# Altium footprint library GS-101_v3.3.PcbLib: 40 footprints (part 2 of 3)
Each footprint in its own frame and in the unit in brackets; x right, y up, seen from the top. Pads: shape width x height; smd on the part's side, far side on the other; paste and mask are expansions set on the pad; w line width, h text height; cw(c..) or ccw(c..) is an arc to the next point about the centre after c.
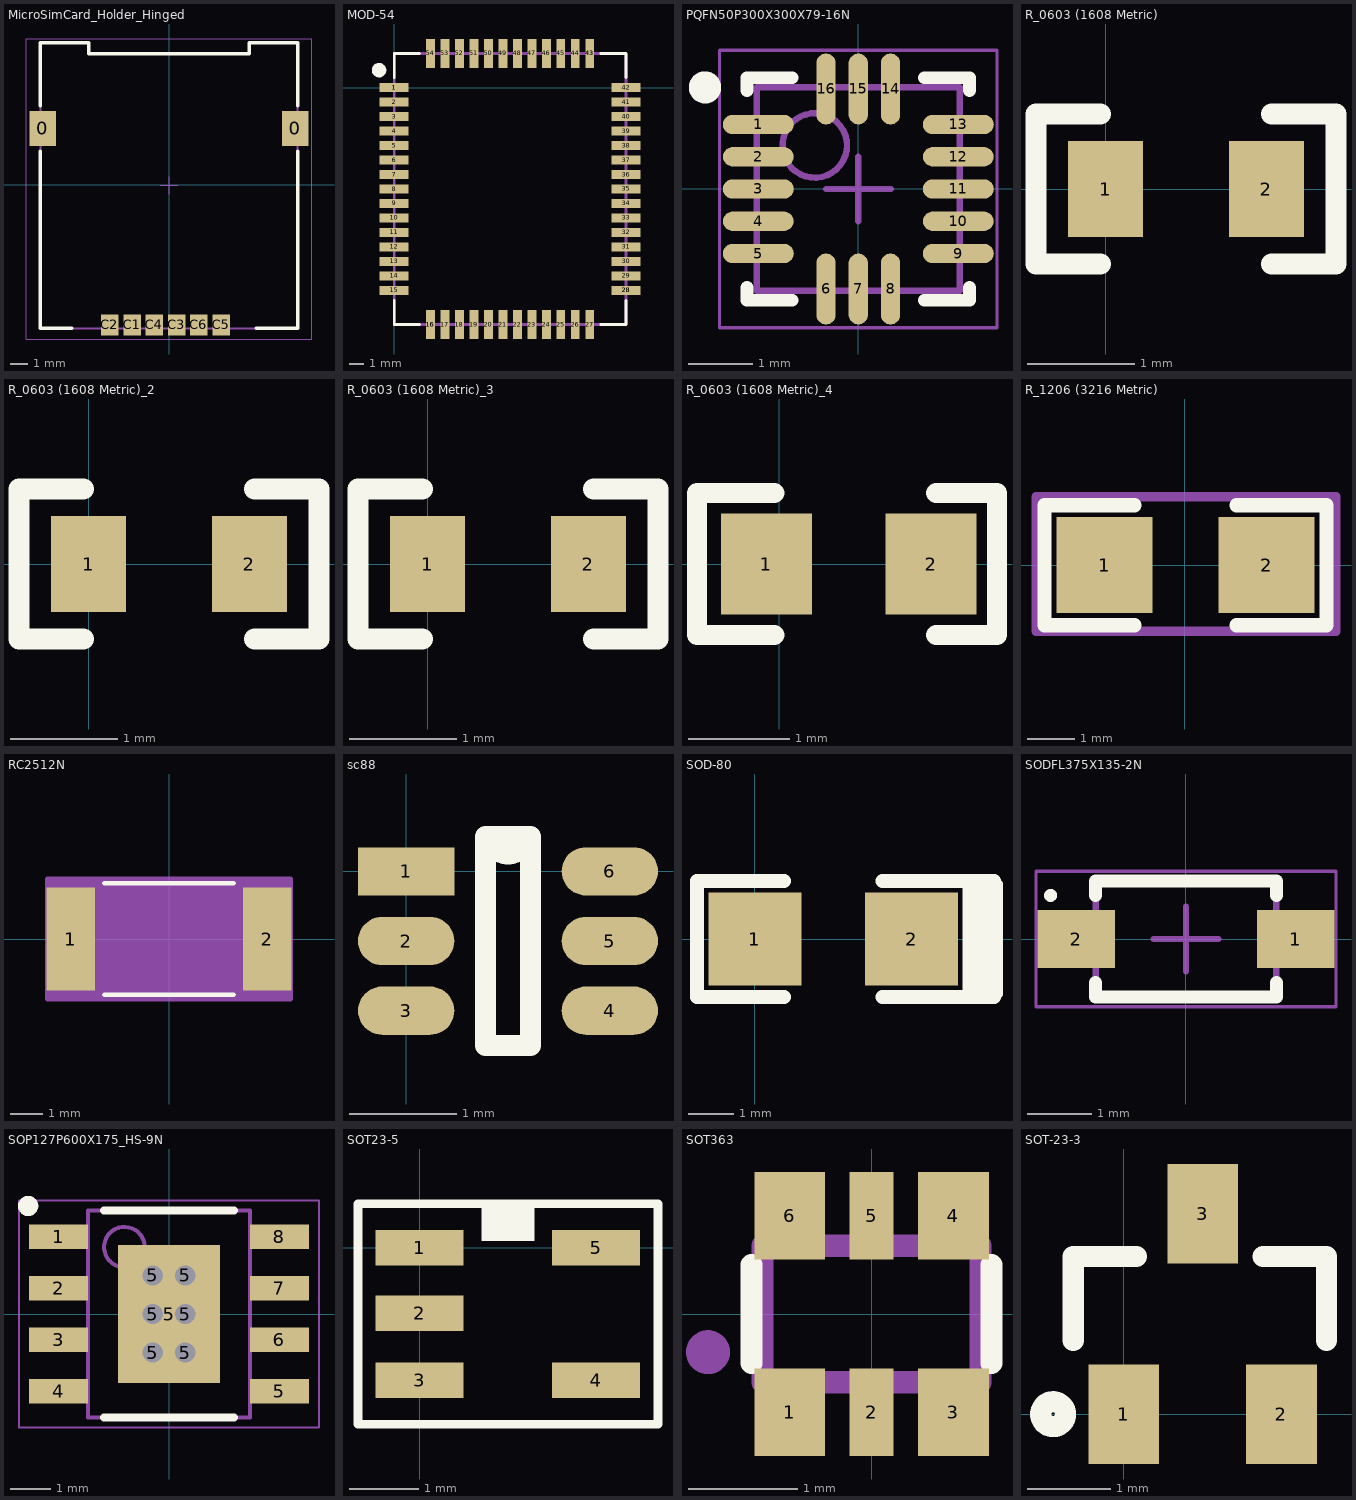
[diagram p1: the footprints below, top view; thin cyan lines are the x and y axes]

## MicroSimCard_Holder_Hinged [mm]
height 6.4
pads (8):
  rect 1.5x2 smd: 0(-7.2,3.199) 0(7.2,3.199)
  rect 1x1.2 smd: C1(-2.104,-8.001) C2(-3.374,-8.001) C3(0.436,-8.001) C4(-0.834,-8.001) C5(2.976,-8.001) C6(1.706,-8.001)
Top Overlay:
  lines w0.2: -7.33,1.899 -7.33,-8.201 -5.53,-8.201 ; -7.33,4.499 -7.33,8.099 -4.58,8.099 -4.58,7.449 4.58,7.449 4.58,8.099 7.33,8.099 7.33,4.499 ; 4.97,-8.201 7.33,-8.201 7.33,1.899
Mechanical 13:
  lines w0.1: -7.33,-8.201 7.33,-8.201 7.33,8.099 4.58,8.099 4.58,7.449 -4.58,7.449 -4.58,8.099 -7.33,8.099 -7.33,-8.201
Mechanical 15:
  lines w0.05: -0.5,-0.051 0.5,-0.051 ; 0,-0.551 0,0.449 ; -8.15,-8.801 -8.15,8.299 8.15,8.299 8.15,-8.801 -8.15,-8.801
3D body "693022010811.stp": height 2.09, standoff -0.04, extent -7.7,-8.211 7.7,8.089

## MOD-54 [mm] "SKC111"
pads (58):
  rect 2x0.6 smd: 1(0,0) 1(0,0) 2(0,-1) 3(0,-2) 4(0,-3) 5(0,-4) 6(0,-5) 7(0,-6) 8(0,-7) 9(0,-8) 10(0,-9) 11(0,-10) 12(0,-11) 13(0,-12) 14(0,-13) 15(0,-14) 28(16,-14) 28(16,-14) 29(16,-13) 30(16,-12) 31(16,-11) 32(16,-10) 33(16,-9) 34(16,-8) 35(16,-7) 36(16,-6) 37(16,-5) 38(16,-4) 39(16,-3) 40(16,-2) 41(16,-1) 42(16,0)
  rect 0.6x2 smd: 16(2.5,-16.35) 16(2.5,-16.35) 17(3.5,-16.35) 18(4.5,-16.35) 19(5.5,-16.35) 20(6.5,-16.35) 21(7.5,-16.35) 22(8.5,-16.35) 23(9.5,-16.35) 24(10.5,-16.35) 25(11.5,-16.35) 26(12.5,-16.35) 27(13.5,-16.35) 43(13.5,2.35) 43(13.5,2.35) 44(12.5,2.35) 45(11.5,2.35) 46(10.5,2.35) 47(9.5,2.35) 48(8.5,2.35) 49(7.5,2.35) 50(6.5,2.35) 51(5.5,2.35) 52(4.5,2.35) 53(3.5,2.35) 54(2.5,2.35)
Top Overlay:
  circle w0.5: c-1.05,1.2 r0.25
  lines w0.2: 0,-14.7 0,-16.35 1.75,-16.35 ; 0,0.7 0,2.35 1.75,2.35 ; 14.25,-16.35 16,-16.35 16,-14.7 ; 14.25,2.35 16,2.35 16,0.7
Mechanical 1:
  lines w0.2: 0,-16.35 0,2.35 16,2.35 16,-16.35 0,-16.35
3D body "User Library-Quectel MC60.step": height 2.1, standoff 0, extent -0.001,-16.352 16.001,2.35

## PQFN50P300X300X79-16N [mm] "PQFN, 16-Leads, Body 3.00x3.00mm, Pitch 0.50mm, IPC Medium Density"
height 0.79
pads (16):
  oval 1.1x0.3 smd mask+0.038: 1(-1.55,1) 2(-1.55,0.5) 3(-1.55,0) 4(-1.55,-0.5) 5(-1.55,-1) 9(1.55,-1) 10(1.55,-0.5) 11(1.55,0) 12(1.55,0.5) 13(1.55,1)
  oval 0.3x1.1 smd mask+0.038: 6(-0.5,-1.55) 7(0,-1.55) 8(0.5,-1.55) 14(0.5,1.55) 15(0,1.55) 16(-0.5,1.55)
Top Overlay:
  circle w0.25: c-2.375,1.575 r0.125
  lines w0.2: -1.725,-1.525 -1.725,-1.725 -1.025,-1.725 ; -1.725,1.525 -1.725,1.725 -1.025,1.725 ; 1.025,-1.725 1.725,-1.725 1.725,-1.525 ; 1.025,1.725 1.725,1.725 1.725,1.525
Mechanical 13:
  circle w0.1: c-0.675,0.675 r0.5
  lines w0.1: -1.575,-1.575 -1.575,1.575 1.575,1.575 1.575,-1.575 -1.575,-1.575
Mechanical 15:
  lines w0.05: -2.15,-2.15 -2.15,2.15 2.15,2.15 2.15,-2.15 -2.15,-2.15
  lines w0.1: -0.5,0 0.5,0 ; 0,-0.5 0,0.5
3D body "PQFN50P300X300X79-16N.step": height 0.78, standoff 0, extent -1.575,-1.575 1.575,1.575

## R_0603 (1608 Metric) [mm]
pads (2):
  rect 0.7x0.9 smd: 1(0,0) 2(1.5,0)
Top Overlay:
  lines w0.2: -0.05,-0.7 -0.65,-0.7 -0.65,0.7 -0.05,0.7 ; 1.55,-0.7 2.15,-0.7 2.15,0.7 1.55,0.7
3D body "User Library-RES_1609-0603.step": height 0.56, standoff 0, extent -0.1,-0.4 1.6,0.4

## R_0603 (1608 Metric)_2 [mm]
pads (2):
  rect 0.7x0.9 smd: 1(0,0) 2(1.5,0)
Top Overlay:
  lines w0.2: -0.05,-0.7 -0.65,-0.7 -0.65,0.7 -0.05,0.7 ; 1.55,-0.7 2.15,-0.7 2.15,0.7 1.55,0.7
3D body "User Library-RES_1609-0603.step": height 0.56, standoff 0, extent -0.1,-0.4 1.6,0.4

## R_0603 (1608 Metric)_3 [mm]
pads (2):
  rect 0.7x0.9 smd: 1(0,0) 2(1.5,0)
Top Overlay:
  lines w0.2: -0.05,-0.7 -0.65,-0.7 -0.65,0.7 -0.05,0.7 ; 1.55,-0.7 2.15,-0.7 2.15,0.7 1.55,0.7
3D body "User Library-RES_1609-0603.step": height 0.56, standoff 0, extent -0.1,-0.4 1.6,0.4

## R_0603 (1608 Metric)_4 [mm]
pads (2):
  rect 0.9x1 smd: 1(-0.127,0) 2(1.5,0)
Top Overlay:
  lines w0.2: -0.05,-0.7 -0.813,-0.7 -0.813,0.7 -0.05,0.7 ; 1.55,-0.7 2.15,-0.7 2.15,0.7 1.55,0.7
3D body "User Library-RES_1609-0603.step": height 0.56, standoff 0, extent -0.1,-0.4 1.6,0.4

## R_1206 (3216 Metric) [mil] "SMD Resistor"
pads (2):
  rect 80x80 smd: 1(-66.93,0) 2(68.07,0)
Top Overlay:
  lines w12: -41.93,-50 -116.93,-50 -116.93,50 -41.93,50 ; 43.07,-50 118.07,-50 118.07,50 43.07,50
Mechanical 15:
  lines w7.87: -124.02,-55.12 -124.02,57.09 125.98,57.09 125.98,-55.12 -124.02,-55.12
  text ".Comment" at -118.11,-15.75 h19.68
3D body "SW3dPS-1206 SMD Resistor.STEP": height 39.45, standoff 0, extent -62.99,-31.5 62.99,31.5

## RC2512N [mm]
pads (2):
  rect 1.5x3.2 smd paste+0 mask+0: 1(-3.048,0) 2(3.048,0)
Top Overlay:
  lines w0.152: -1.992,-1.727 1.992,-1.727 ; -1.992,1.727 1.992,1.727
Mechanical 13:
  lines w0.025: -3.15,-1.6 -3.15,1.6 ; -3.15,-1.6 -2.3,-1.6 -2.3,1.6 -3.15,1.6 ; -3.15,-1.6 3.15,-1.6 ; -3.15,-1.6 -3.15,1.6 ; -3.15,1.6 3.15,1.6 ; 3.15,-1.6 2.3,-1.6 2.3,1.6 3.15,1.6 ; 3.15,-1.6 3.15,1.6 ; 3.15,-1.6 3.15,1.6
Mechanical 15:
  region: 3.76,-1.854 -3.76,-1.854 -3.76,1.854 3.76,1.854
  lines w0.152: -3.76,-1.854 -3.76,1.854 3.76,1.854 3.76,-1.854 -3.76,-1.854
3D body "RC2512N-M.step": height 0.71, standoff 0, extent -3.15,-1.6 3.15,1.6

## sc88 [mm]
height 6.4
pads (6):
  rect 0.9x0.45 smd: 1(0,0)
  oval 0.9x0.45 smd: 2(0,-0.65) 3(0,-1.3) 4(1.9,-1.3) 5(1.9,-0.65) 6(1.9,0)
Top Overlay:
  lines w0.2: 0.74,-1.625 0.74,0.325 1.112,0.325 cw(c0.95,0.325) 0.787,0.325 1.16,0.325 1.16,-1.625 0.74,-1.625
3D body "User Library-SC88-6.step": height 1.1, standoff 0, extent -0.15,-1.65 2.05,0.35

## SOD-80 [mil]
height 76.77
pads (2):
  rect 80x80 smd: 1(0,0) 2(135,0)
Top Overlay:
  lines w10: 192.91,-47.24 192.91,47.25 ; 200.79,-47.24 200.79,47.25 ; 208.66,-47.24 208.66,47.25
  lines w12: 25,-50 -50,-50 -50,50 25,50 ; 110,-50 185,-50 185,50
  lines w12.01: 110,50 185,50 ; 153.54,50 205.9,50 ; 173.23,-50 205.9,-50
3D body "User Library-SOD80-3.STEP": height 59.06, standoff 0, extent -0.87,-30 140.87,29.05

## SODFL375X135-2N [mm] "SODFL, 2-Leads, Body 1.60x3.75mm, IPC Medium Density"
height 1.35
pads (2):
  rect 1.2x0.9 smd: 1(1.7,0) 2(-1.7,0)
Top Overlay:
  circle w0.1: c-2.1,0.675 r0.05
  lines w0.2: -1.4,-0.675 -1.4,-0.9 1.4,-0.9 1.4,-0.675 ; -1.4,0.675 -1.4,0.9 1.4,0.9 1.4,0.675
Mechanical 13:
  lines w0.1: -1.4,-0.9 -1.4,0.9 1.4,0.9 1.4,-0.9 -1.4,-0.9
Mechanical 15:
  lines w0.05: -2.325,-1.05 -2.325,1.05 2.325,1.05 2.325,-1.05 -2.325,-1.05
  lines w0.1: -0.5,0 0.5,0 ; 0,-0.5 0,0.5
3D body "SODFL375X135-2N.step": height 1.35, standoff 0, extent -1.875,-0.9 1.875,0.9

## SOP127P600X175_HS-9N [mm] "SOP, 8-Leads, Body 4.90x3.90mm, Pitch 1.27mm, Thermal Pad 3.41x2.52mm, IPC Medium Density"
height 1.75
pads (15):
  rect 1.45x0.6 smd: 1(-2.725,1.905) 2(-2.725,0.635) 3(-2.725,-0.635) 4(-2.725,-1.905) 5(2.725,-1.905) 6(2.725,-0.635) 7(2.725,0.635) 8(2.725,1.905)
  round 1 hole 0.5: 5(-0.4,-0.95) 5(-0.4,0) 5(-0.4,0.95) 5(0.4,-0.95) 5(0.4,0) 5(0.4,0.95)
  rect 2.52x3.41 smd: 5(0,0)
Top Overlay:
  circle w0.25: c-3.475,2.665 r0.125
  lines w0.2: -1.6,-2.55 1.6,-2.55 ; -1.6,2.55 1.6,2.55
Mechanical 13:
  circle w0.1: c-1.1,1.65 r0.5
  lines w0.1: -2,-2.55 -2,2.55 2,2.55 2,-2.55 -2,-2.55
Mechanical 15:
  lines w0.05: -3.7,-2.8 -3.7,2.8 3.7,2.8 3.7,-2.8 -3.7,-2.8
  lines w0.1: -0.5,0 0.5,0 ; 0,-0.5 0,0.5
3D body "SOP127P600X175_HS-9N.step": height 1.75, standoff 0, extent -3,-2.55 3,2.55

## SOT23-5 [mil]
height 251.97
pads (5):
  rect 50x20 smd: 1(0,0) 2(0,-37) 3(0,-75) 4(100,-75) 5(100,0)
Top Overlay:
  rectangle: 35,3.94 65,23.63
  lines w5: -34.88,11.02 -34.88,12.02 ; -34.88,15.02 -34.88,25.02 ; -20.88,25.02 -18.88,25.02 ; -19.88,25.02 -34.88,25.02 ; -34.88,25.02 135.12,25.02 135.12,-99.98 -34.88,-99.98 -34.88,25.02
3D body: height 52.18, standoff 51.18, extent 31.02,3.02 40.98,13
3D body: height 8.66, standoff 0, extent 89,-8 98,8
3D body: height 24.41, standoff 0, extent 82.5,-8 91.5,8
3D body: height 24.41, standoff 15.75, extent 76,-8 83,8
3D body: height 8.66, standoff 0, extent 89,-83 98,-67
3D body: height 24.41, standoff 0, extent 82.5,-83 91.5,-67
3D body: height 24.41, standoff 15.75, extent 76,-83 83,-67
3D body: height 8.66, standoff 0, extent 2,-83 11,-67
3D body: height 24.41, standoff 0, extent 8.5,-83 17.5,-67
3D body: height 24.41, standoff 15.75, extent 17,-83 24,-67
3D body: height 8.66, standoff 0, extent 2,-45 11,-29
3D body: height 24.41, standoff 0, extent 8.5,-45 17.5,-29
3D body: height 24.41, standoff 15.75, extent 17,-45 24,-29
3D body: height 24.41, standoff 15.75, extent 17,-8 24,8
3D body: height 24.41, standoff 0, extent 8.5,-8 17.5,8
3D body: height 8.66, standoff 0, extent 2,-8 11,8
3D body: height 51.18, standoff 3.94, extent 24,-95 76,20

## SOT363 [mm] "SOT363"
height 7
pads (6):
  rect 0.65x0.8 smd: 1(-0.75,-0.9) 3(0.75,-0.9) 4(0.75,0.9) 6(-0.75,0.9)
  rect 0.4x0.8 smd: 2(0,-0.9) 5(0,0.9)
Top Overlay:
  lines w0.203: -1.1,-0.45 -1.1,0.45 ; 1.1,-0.45 1.1,0.45
Mechanical 8:
  region: 0.525,0.7 0.525,1.05 0.775,1.05 0.775,0.7
  region: -0.125,0.7 -0.125,1.05 0.125,1.05 0.125,0.7
  region: -0.775,0.7 -0.775,1.05 -0.525,1.05 -0.525,0.7
  region: 0.525,-1.05 0.525,-0.7 0.775,-0.7 0.775,-1.05
  region: -0.775,-1.05 -0.775,-0.7 -0.525,-0.7 -0.525,-1.05
  region: -0.125,-1.05 -0.125,-0.7 0.125,-0.7 0.125,-1.05
  lines w0.203: -1,-0.625 -1,0.625 1,0.625 1,-0.625 -1,-0.625
Mechanical 16:
  circle w0.203: c-1.5,-0.35 r0.1

## SOT-23-3 [mm]
pads (3):
  rect 0.85x1.2 smd: 1(0,0) 2(1.9,0) 3(0.95,2.413)
Top Overlay:
  circle w0.254: c-0.85,0 r0.15
  lines w0.254: -0.608,0.889 -0.608,1.9 0.154,1.9 ; 1.678,1.9 2.44,1.9 2.44,0.889
3D body "User Library-SOT23-2.STEP": height 1.08, standoff 0, extent -0.55,-0.2 2.45,2.44